# Altium schematic symbol library SCH - DIODES - LED RGB COMMON ANODE.SCHLIB: 1 symbol
Pins are listed as number, name and electrical type; pins without a type are passive.

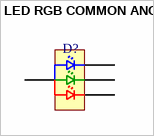
[diagram p0: symbol LED RGB COMMON ANODE]

## LED RGB COMMON ANODE
designator D?
pins: B BLUE, C ANODE, G GREEN, R RED